# Altium schematic symbol library lib_epc.SchLib: 1 symbol
Pins are listed as number, name and electrical type; pins without a type are passive.

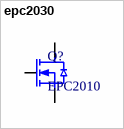
[diagram p0: symbol epc2030]

## epc2030
designator Q?, comment EPC2010
GaN Enhancement Mode Power Transistor; ComponentLink1Description: datasheet; ComponentLink1URL: https://epc-co.com/epc/Portals/0/epc/documents/datasheets/EPC2030_datasheet.pdf
footprint epc2030_die
pins: D, G, S